# EAGLE library part PH2.54-5W2 (library added_parts)
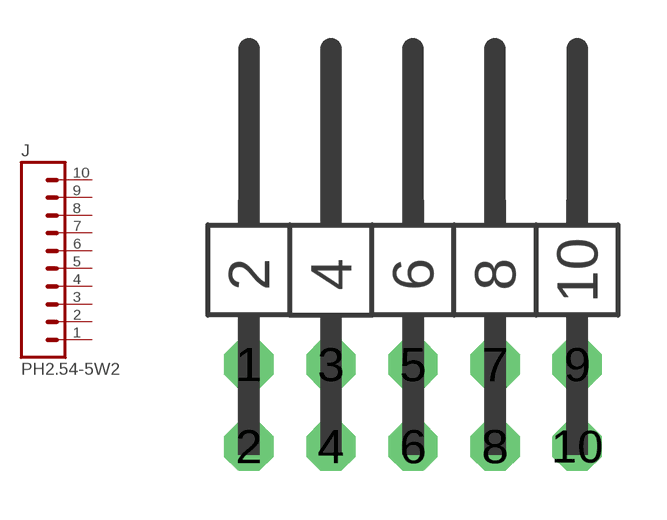
[diagram p29: symbol with the pads of PH2.54-5W2; footprint PH2.54-5W2]

Designator prefix J

## PH2.54-5W2  [PH2.54-5W2]
1  1  pas
2  2  pas
3  3  pas
4  4  pas
5  5  pas
6  6  pas
7  7  pas
8  8  pas
9  9  pas
10  10  pas

## Footprint PH2.54-5W2 (pad centres in mm)
drill 1.016 octagon: 1 -5.08,0; 2 -5.08,-2.54; 3 -2.54,0; 4 -2.54,-2.54; 5 0,0; 6 0,-2.54; 7 2.54,0; 8 2.54,-2.54; 9 5.08,0; 10 5.08,-2.54